# Altium integrated library Cypress PSoC 1.IntLib: 188 symbols (part 3 of 11)
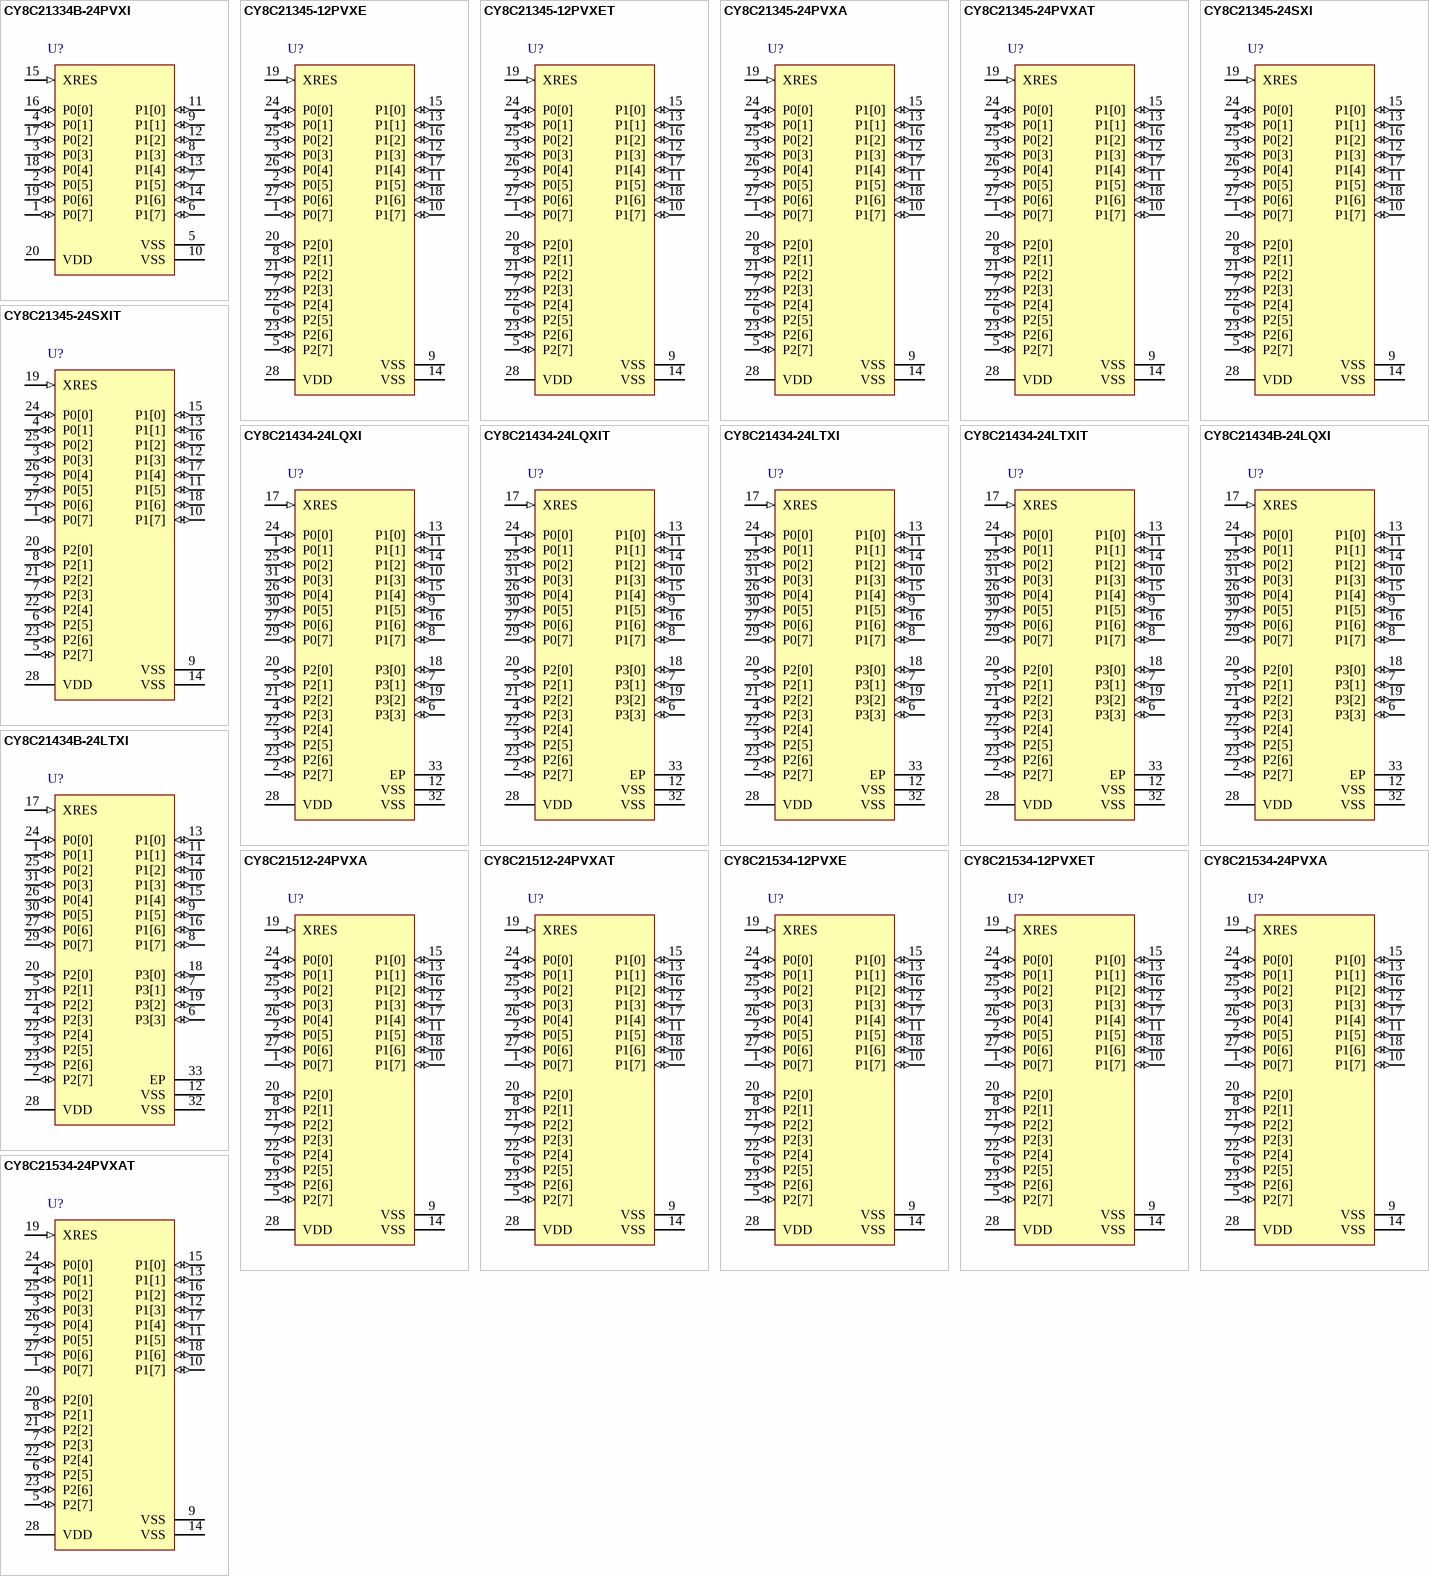
[diagram p13: symbols CY8C21334B-24PVXI to CY8C21534-24PVXAT]

## CY8C21345-12PVXE
designator U?
Automotive PSoC Programmable System-on-Chip, 8 KB Flash, 24 GPIOs, 4.75 to 5.25 V, 28-Pin SSOP (O28.21); Manufacturer: Cypress; PartNumber: CY8C21345-12PVXE; CPU Core: M8C; No. of CapSense IO: 21; Flash (KB): 8; Max. Operating Voltage (V): 5.25; Min. Operating Voltage (V): 4.75; No. of GPIOs: 24; No. of Programmable Digital Blocks: 4; Rating: E; DatasheetVersion: Rev. *K; PackageVersion: *C; PackageReference: PVX28; PackageDescription: 28-Pin SSOP, Body 10.2 x 5.3 mm, Pitch 0.65 mm; Supplier 1: Digi-Key; Supplier Part Number 1: CY8C21345-12PVXE-ND; Supplier 2: Mouser; Supplier Part Number 2: 727-CY8C21345-12PVXE; Max. Operating Temp. (°C): 125; Min. Operating Temp. (°C): -40; RoHS: Pb-Free; Mounting Technology: Surface Mount; ComponentLink1Description: Manufacturer URL; ComponentLink1URL: http://www.cypress.com/; ComponentLink2Description: Datasheet; ComponentLink2URL: http://www.cypress.com/?docID=40421; ComponentLink3Description: Package Specification; ComponentLink3URL: http://www.cypress.com/?docID=1371; ComponentLink4Description: Product URL; ComponentLink4URL: http://www.cypress.com/?rID=42798
footprint CYP-PVX28_N (SOP, 28-Leads, Body 10.2x5.3mm, Pitch 0.65mm, IPC Medium Density)
footprint CYP-PVX28_L (SOP, 28-Leads, Body 10.2x5.3mm, Pitch 0.65mm, IPC High Density)
footprint CYP-PVX28_M (SOP, 28-Leads, Body 10.2x5.3mm, Pitch 0.65mm, IPC Low Density)
pins: 1 P0[7] (io) "Analog column mux input, CMOD capacitor pin", 2 P0[5] (io) "Analog column mux input, CMOD capacitor pin", 3 P0[3] (io) "Analog column mux input", 4 P0[1] (io) "Analog column mux input", 5 P2[7] (io) "Direct input to analog block", 6 P2[5] (io) "Optional SAR ADC external reference(EXTREF)", 7 P2[3] (io), 8 P2[1] (io), 9 VSS (power) "Ground connection", 10 P1[7] (io) "I2C serial clock (SCL)", 11 P1[5] (io) "I2C serial data (SDA)", 12 P1[3] (io), 13 P1[1] (io) "Crystal input (XTALin), I2C SCL,ISSP-SCLK", 14 VSS (power) "Ground connection", 15 P1[0] (io) "Crystal output (XTALout), I2C SDA,ISSP-SDATA", 16 P1[2] (io), 17 P1[4] (io) "Optional external clock (EXTCLK) input", 18 P1[6] (io), 19 XRES (in) "Active high external reset with internal pull-down", 20 P2[0] (io), 21 P2[2] (io), 22 P2[4] (io), 23 P2[6] (io) "Direct input to analog block", 24 P0[0] (io) "Analog column mux input", 25 P0[2] (io) "Analog column mux input", 26 P0[4] (io) "Analog column mux input", 27 P0[6] (io) "Analog column mux input", 28 VDD (power) "Supply voltage"

## CY8C21345-12PVXET
designator U?
Automotive PSoC Programmable System-on-Chip, 8 KB Flash, 24 GPIOs, 4.75 to 5.25 V, 28-Pin SSOP (O28.21), Tape and Reel; Manufacturer: Cypress; PartNumber: CY8C21345-12PVXET; CPU Core: M8C; No. of CapSense IO: 21; Flash (KB): 8; Max. Operating Voltage (V): 5.25; Min. Operating Voltage (V): 4.75; No. of GPIOs: 24; No. of Programmable Digital Blocks: 4; Rating: E; DatasheetVersion: Rev. *K; PackageVersion: *C; PackageReference: PVX28; PackageDescription: 28-Pin SSOP, Body 10.2 x 5.3 mm, Pitch 0.65 mm; Supplier 1: Digi-Key; Supplier Part Number 1: CY8C21345-12PVXET-ND; Supplier 2: Mouser; Supplier Part Number 2: 727-CY8C2134512PVXET; Max. Operating Temp. (°C): 125; Min. Operating Temp. (°C): -40; Packing: Tape and Reel; RoHS: Pb-Free; Mounting Technology: Surface Mount; ComponentLink1Description: Manufacturer URL; ComponentLink1URL: http://www.cypress.com/; ComponentLink2Description: Datasheet; ComponentLink2URL: http://www.cypress.com/?docID=40421; ComponentLink3Description: Package Specification; ComponentLink3URL: http://www.cypress.com/?docID=1371; ComponentLink4Description: Product URL; ComponentLink4URL: http://www.cypress.com/?rID=42798
footprint CYP-PVX28_N (SOP, 28-Leads, Body 10.2x5.3mm, Pitch 0.65mm, IPC Medium Density)
footprint CYP-PVX28_L (SOP, 28-Leads, Body 10.2x5.3mm, Pitch 0.65mm, IPC High Density)
footprint CYP-PVX28_M (SOP, 28-Leads, Body 10.2x5.3mm, Pitch 0.65mm, IPC Low Density)
pins: 1 P0[7] (io) "Analog column mux input, CMOD capacitor pin", 2 P0[5] (io) "Analog column mux input, CMOD capacitor pin", 3 P0[3] (io) "Analog column mux input", 4 P0[1] (io) "Analog column mux input", 5 P2[7] (io) "Direct input to analog block", 6 P2[5] (io) "Optional SAR ADC external reference(EXTREF)", 7 P2[3] (io), 8 P2[1] (io), 9 VSS (power) "Ground connection", 10 P1[7] (io) "I2C serial clock (SCL)", 11 P1[5] (io) "I2C serial data (SDA)", 12 P1[3] (io), 13 P1[1] (io) "Crystal input (XTALin), I2C SCL,ISSP-SCLK", 14 VSS (power) "Ground connection", 15 P1[0] (io) "Crystal output (XTALout), I2C SDA,ISSP-SDATA", 16 P1[2] (io), 17 P1[4] (io) "Optional external clock (EXTCLK) input", 18 P1[6] (io), 19 XRES (in) "Active high external reset with internal pull-down", 20 P2[0] (io), 21 P2[2] (io), 22 P2[4] (io), 23 P2[6] (io) "Direct input to analog block", 24 P0[0] (io) "Analog column mux input", 25 P0[2] (io) "Analog column mux input", 26 P0[4] (io) "Analog column mux input", 27 P0[6] (io) "Analog column mux input", 28 VDD (power) "Supply voltage"

## CY8C21345-24PVXA
designator U?
Automotive PSoC Programmable System-on-Chip, 16 KB Flash, 24 GPIOs, 3.00 to 5.25 V, 28-Pin SSOP (O28.21); Manufacturer: Cypress; PartNumber: CY8C21345-24PVXA; CPU Core: M8C; No. of CapSense IO: 21; Flash (KB): 8; Max. Operating Voltage (V): 5.25; Min. Operating Voltage (V): 3; No. of GPIOs: 24; No. of Programmable Digital Blocks: 4; Rating: A; DatasheetVersion: Rev. *K; PackageVersion: *C; PackageReference: PVX28; PackageDescription: 28-Pin SSOP, Body 10.2 x 5.3 mm, Pitch 0.65 mm; Supplier 1: Digi-Key; Supplier Part Number 1: CY8C21345-24PVXA-ND; Supplier 2: Mouser; Supplier Part Number 2: 727-8C2134524PVXA; Max. Operating Temp. (°C): 85; Min. Operating Temp. (°C): -40; RoHS: Pb-Free; Mounting Technology: Surface Mount; ComponentLink1Description: Manufacturer URL; ComponentLink1URL: http://www.cypress.com/; ComponentLink2Description: Datasheet; ComponentLink2URL: http://www.cypress.com/?docID=40421; ComponentLink3Description: Package Specification; ComponentLink3URL: http://www.cypress.com/?docID=1371; ComponentLink4Description: Product URL; ComponentLink4URL: http://www.cypress.com/?rID=42798
footprint CYP-PVX28_N (SOP, 28-Leads, Body 10.2x5.3mm, Pitch 0.65mm, IPC Medium Density)
footprint CYP-PVX28_L (SOP, 28-Leads, Body 10.2x5.3mm, Pitch 0.65mm, IPC High Density)
footprint CYP-PVX28_M (SOP, 28-Leads, Body 10.2x5.3mm, Pitch 0.65mm, IPC Low Density)
pins: 1 P0[7] (io) "Analog column mux input, CMOD capacitor pin", 2 P0[5] (io) "Analog column mux input, CMOD capacitor pin", 3 P0[3] (io) "Analog column mux input", 4 P0[1] (io) "Analog column mux input", 5 P2[7] (io) "Direct input to analog block", 6 P2[5] (io) "Optional SAR ADC external reference(EXTREF)", 7 P2[3] (io), 8 P2[1] (io), 9 VSS (power) "Ground connection", 10 P1[7] (io) "I2C serial clock (SCL)", 11 P1[5] (io) "I2C serial data (SDA)", 12 P1[3] (io), 13 P1[1] (io) "Crystal input (XTALin), I2C SCL,ISSP-SCLK", 14 VSS (power) "Ground connection", 15 P1[0] (io) "Crystal output (XTALout), I2C SDA,ISSP-SDATA", 16 P1[2] (io), 17 P1[4] (io) "Optional external clock (EXTCLK) input", 18 P1[6] (io), 19 XRES (in) "Active high external reset with internal pull-down", 20 P2[0] (io), 21 P2[2] (io), 22 P2[4] (io), 23 P2[6] (io) "Direct input to analog block", 24 P0[0] (io) "Analog column mux input", 25 P0[2] (io) "Analog column mux input", 26 P0[4] (io) "Analog column mux input", 27 P0[6] (io) "Analog column mux input", 28 VDD (power) "Supply voltage"

## CY8C21345-24PVXAT
designator U?
Automotive PSoC Programmable System-on-Chip, 16 KB Flash, 24 GPIOs, 3.00 to 5.25 V, 28-Pin SSOP (O28.21), Tape and Reel; Manufacturer: Cypress; PartNumber: CY8C21345-24PVXAT; CPU Core: M8C; No. of CapSense IO: 21; Flash (KB): 8; Max. Operating Voltage (V): 5.25; Min. Operating Voltage (V): 3; No. of GPIOs: 24; No. of Programmable Digital Blocks: 4; Rating: A; DatasheetVersion: Rev. *K; PackageVersion: *C; PackageReference: PVX28; PackageDescription: 28-Pin SSOP, Body 10.2 x 5.3 mm, Pitch 0.65 mm; Supplier 1: Digi-Key; Supplier Part Number 1: CY8C21345-24PVXAT-ND; Supplier 2: Mouser; Supplier Part Number 2: 727-8C2134524PVXAT; Max. Operating Temp. (°C): 85; Min. Operating Temp. (°C): -40; Packing: Tape and Reel; RoHS: Pb-Free; Mounting Technology: Surface Mount; ComponentLink1Description: Manufacturer URL; ComponentLink1URL: http://www.cypress.com/; ComponentLink2Description: Datasheet; ComponentLink2URL: http://www.cypress.com/?docID=40421; ComponentLink3Description: Package Specification; ComponentLink3URL: http://www.cypress.com/?docID=1371; ComponentLink4Description: Product URL; ComponentLink4URL: http://www.cypress.com/?rID=42798
footprint CYP-PVX28_N (SOP, 28-Leads, Body 10.2x5.3mm, Pitch 0.65mm, IPC Medium Density)
footprint CYP-PVX28_L (SOP, 28-Leads, Body 10.2x5.3mm, Pitch 0.65mm, IPC High Density)
footprint CYP-PVX28_M (SOP, 28-Leads, Body 10.2x5.3mm, Pitch 0.65mm, IPC Low Density)
pins: 1 P0[7] (io) "Analog column mux input, CMOD capacitor pin", 2 P0[5] (io) "Analog column mux input, CMOD capacitor pin", 3 P0[3] (io) "Analog column mux input", 4 P0[1] (io) "Analog column mux input", 5 P2[7] (io) "Direct input to analog block", 6 P2[5] (io) "Optional SAR ADC external reference(EXTREF)", 7 P2[3] (io), 8 P2[1] (io), 9 VSS (power) "Ground connection", 10 P1[7] (io) "I2C serial clock (SCL)", 11 P1[5] (io) "I2C serial data (SDA)", 12 P1[3] (io), 13 P1[1] (io) "Crystal input (XTALin), I2C SCL,ISSP-SCLK", 14 VSS (power) "Ground connection", 15 P1[0] (io) "Crystal output (XTALout), I2C SDA,ISSP-SDATA", 16 P1[2] (io), 17 P1[4] (io) "Optional external clock (EXTCLK) input", 18 P1[6] (io), 19 XRES (in) "Active high external reset with internal pull-down", 20 P2[0] (io), 21 P2[2] (io), 22 P2[4] (io), 23 P2[6] (io) "Direct input to analog block", 24 P0[0] (io) "Analog column mux input", 25 P0[2] (io) "Analog column mux input", 26 P0[4] (io) "Analog column mux input", 27 P0[6] (io) "Analog column mux input", 28 VDD (power) "Supply voltage"

## CY8C21345-24SXI
designator U?
PSoC Programmable System-on-Chip, 4 KB Flash, 24 GPIOs, 3.00 to 5.25 V, 28-Pin SOIC (S28.3); Manufacturer: Cypress; PartNumber: CY8C21345-24SXI; CPU Core: M8C; No. of CapSense IO: 24; Flash (KB): 4; Max. Operating Voltage (V): 5.25; Min. Operating Voltage (V): 3; Rating: I; DatasheetVersion: Rev. *R; PackageVersion: *E; PackageReference: SX28; PackageDescription: 28-Pin SOIC, Body 17.91 x 7.51 mm, Pitch 1.27 mm; Supplier 1: Digi-Key; Supplier Part Number 1: CY8C21345-24SXI-ND; Supplier 2: Newark; Supplier Part Number 2: 46P7692; Supplier 3: Mouser; Supplier Part Number 3: 727-CY8C2134524SXI; Max. Operating Temp. (°C): 85; Min. Operating Temp. (°C): -40; No. of GPIOs: 24; No. of Programmable Digital Blocks: 4; RoHS: Pb-Free; Mounting Technology: Surface Mount; Code_JEDEC: MO-119; ComponentLink1Description: Manufacturer URL; ComponentLink1URL: http://www.cypress.com/; ComponentLink2Description: Datasheet; ComponentLink2URL: http://www.cypress.com/?docID=45266; ComponentLink3Description: Package Specification; ComponentLink3URL: http://www.cypress.com/?docID=39168; ComponentLink4Description: Product URL; ComponentLink4URL: http://www.cypress.com/?rID=34248
footprint CYP-SX28_N (SOIC, 28-Leads, Body 17.9x7.5mm, Pitch 1.27mm, IPC Medium Density)
footprint CYP-SX28_L (SOIC, 28-Leads, Body 17.9x7.5mm, Pitch 1.27mm, IPC High Density)
footprint CYP-SX28_M (SOIC, 28-Leads, Body 17.9x7.5mm, Pitch 1.27mm, IPC Low Density)
pins: 1 P0[7] (io) "Integration Capacitor for MR", 2 P0[5] (io) "Integration Capacitor for ML", 3 P0[3] (io), 4 P0[1] (io), 5 P2[7] (io) "To Compare Column 0", 6 P2[5] (io) "Optional ADC External Vref", 7 P2[3] (io), 8 P2[1] (io), 9 VSS (power) "Ground Connection", 10 P1[7] (io) "I2C serial clock (SCL)", 11 P1[5] (io) "I2C serial data (SDA)", 12 P1[3] (io), 13 P1[1] (io) "I2C serial clock (SCL), ISSP-SCLK", 14 VSS (power) "Ground Connection", 15 P1[0] (io) "I2C serial Clock (SCL), ISSP-SDATA", 16 P1[2] (io), 17 P1[4] (io) "Optional external clock input (EXT-CLK)", 18 P1[6] (io), 19 XRES (in) "Active High Pin Reset with Internal Pull Down", 20 P2[0] (io), 21 P2[2] (io), 22 P2[4] (io), 23 P2[6] (io) "To Compare Column 1", 24 P0[0] (io), 25 P0[2] (io), 26 P0[4] (io), 27 P0[6] (io), 28 VDD (power) "Supply Voltage"

## CY8C21345-24SXIT
designator U?
PSoC Programmable System-on-Chip, 4 KB Flash, 24 GPIOs, 3.00 to 5.25 V, 28-Pin SOIC (S28.3), Tape and Reel; Manufacturer: Cypress; PartNumber: CY8C21345-24SXIT; CPU Core: M8C; No. of CapSense IO: 24; Flash (KB): 8; Max. Operating Voltage (V): 5.25; Min. Operating Voltage (V): 3; No. of Programmable Digital Blocks: 4; Rating: I; DatasheetVersion: Rev. *R; PackageVersion: *E; PackageReference: SX28; PackageDescription: 28-Pin SOIC, Body 17.91 x 7.51 mm, Pitch 1.27 mm; Supplier 1: Digi-Key; Supplier Part Number 1: CY8C21345-24SXIT-ND; Supplier 2: Mouser; Supplier Part Number 2: 727-CY8C2134524SXIT; Max. Operating Temp. (°C): 85; Min. Operating Temp. (°C): -40; No. of GPIOs: 24; Packing: Tape and Reel; RoHS: Pb-Free; Mounting Technology: Surface Mount; Code_JEDEC: MO-119; ComponentLink1Description: Manufacturer URL; ComponentLink1URL: http://www.cypress.com/; ComponentLink2Description: Datasheet; ComponentLink2URL: http://www.cypress.com/?docID=45266; ComponentLink3Description: Package Specification; ComponentLink3URL: http://www.cypress.com/?docID=39168; ComponentLink4Description: Product URL; ComponentLink4URL: http://www.cypress.com/?rID=34248
footprint CYP-SX28_N (SOIC, 28-Leads, Body 17.9x7.5mm, Pitch 1.27mm, IPC Medium Density)
footprint CYP-SX28_L (SOIC, 28-Leads, Body 17.9x7.5mm, Pitch 1.27mm, IPC High Density)
footprint CYP-SX28_M (SOIC, 28-Leads, Body 17.9x7.5mm, Pitch 1.27mm, IPC Low Density)
pins: 1 P0[7] (io) "Integration Capacitor for MR", 2 P0[5] (io) "Integration Capacitor for ML", 3 P0[3] (io), 4 P0[1] (io), 5 P2[7] (io) "To Compare Column 0", 6 P2[5] (io) "Optional ADC External Vref", 7 P2[3] (io), 8 P2[1] (io), 9 VSS (power) "Ground Connection", 10 P1[7] (io) "I2C serial clock (SCL)", 11 P1[5] (io) "I2C serial data (SDA)", 12 P1[3] (io), 13 P1[1] (io) "I2C serial clock (SCL), ISSP-SCLK", 14 VSS (power) "Ground Connection", 15 P1[0] (io) "I2C serial Clock (SCL), ISSP-SDATA", 16 P1[2] (io), 17 P1[4] (io) "Optional external clock input (EXT-CLK)", 18 P1[6] (io), 19 XRES (in) "Active High Pin Reset with Internal Pull Down", 20 P2[0] (io), 21 P2[2] (io), 22 P2[4] (io), 23 P2[6] (io) "To Compare Column 1", 24 P0[0] (io), 25 P0[2] (io), 26 P0[4] (io), 27 P0[6] (io), 28 VDD (power) "Supply Voltage"

## CY8C21434-24LQXI
designator U?
PSoC Programmable System-on-Chip, 8 KB Flash, 28 GPIOs, 2.40 to 5.25 V, 32-Pin QFN (LQ32); Manufacturer: Cypress; PartNumber: CY8C21434-24LQXI; Comm. Interface: I2C-SPI-UART; CPU Core: M8C; No. of CapSense IO: 24; Flash (KB): 8; Max. Operating Voltage (V): 5.25; Min. Operating Voltage (V): 2.4; No. of GPIOs: 28; No. of Programmable Digital Blocks: 3; Proximity Sensing: Y; PWMs: HW; Rating: I; Sliders: 4; SmartSense Enabled: N; DatasheetVersion: Rev. *AD; PackageReference: LQX32; PackageDescription: 32-Pin QFN (5 x 4 x 0.55 mm) LQ32 3.5 x 3.5 E-Pad (Sawn); Supplier 1: Digi-Key; Supplier Part Number 1: CY8C21434-24LQXI-ND; Supplier 2: Newark; Supplier Part Number 2: 04P7430; Supplier 3: Mouser; Supplier Part Number 3: 727-CY8C21434-24LQXI; Max. Operating Temp. (°C): 85; Min. Operating Temp. (°C): -40; RoHS: Pb-Free; Mounting Technology: Surface Mount; Code_JEDEC: MO-248; ComponentLink1Description: Manufacturer URL; ComponentLink1URL: http://www.cypress.com/; ComponentLink2Description: Datasheet; ComponentLink2URL: http://www.cypress.com/?docID=48828; ComponentLink3Description: Package Specification; ComponentLink3URL: http://www.cypress.com/?docID=40402; ComponentLink4Description: Product URL; ComponentLink4URL: http://www.cypress.com/?rID=3345
footprint CYP-LQX32_N (QFN, 32-Leads, Body 5x5mm, Pitch 0.5mm, Thermal Pad 3.5x3.5mm, IPC Medium Density)
footprint CYP-LQX32_L (QFN, 32-Leads, Body 5x5mm, Pitch 0.5mm, Thermal Pad 3.5X3.5mm, IPC High Density)
footprint CYP-LQX32_M (QFN, 32-Leads, Body 5x5mm, Pitch 0.5mm, Thermal Pad 3.5x3.5mm, IPC Low Density)
pins: 1 P0[1] (io) "Analog column mux input, integrating input", 2 P2[7] (io), 3 P2[5] (io), 4 P2[3] (io), 5 P2[1] (io), 6 P3[3] (io), 7 P3[1] (io), 8 P1[7] (io) "I2C SCL", 9 P1[5] (io) "I2C SDA", 10 P1[3] (io), 11 P1[1] (io) "I2C SCL, ISSP-SCLK", 12 VSS (power) "Ground connection", 13 P1[0] (io) "I2C SDA, ISSP-SDATA", 14 P1[2] (io), 15 P1[4] (io) "Optional external clock input (EXTCLK)", 16 P1[6] (io), 17 XRES (in) "Active high external reset with internal pull-down", 18 P3[0] (io), 19 P3[2] (io), 20 P2[0] (io), 21 P2[2] (io), 22 P2[4] (io), 23 P2[6] (io), 24 P0[0] (io) "Analog column mux input", 25 P0[2] (io) "Analog column mux input", 26 P0[4] (io) "Analog column mux input", 27 P0[6] (io) "Analog column mux input", 28 VDD (power) "Supply voltage", 29 P0[7] (io) "Analog column mux input", 30 P0[5] (io) "Analog column mux input", 31 P0[3] (io) "Analog column mux input, integrating input", 32 VSS (power) "Ground connection", 33 EP (power) "Solderable Exposed PAD"

## CY8C21434-24LQXIT
designator U?
PSoC Programmable System-on-Chip, 8 KB Flash, 28 GPIOs, 2.40 to 5.25 V, 32-Pin QFN, Tape and Reel; Manufacturer: Cypress; PartNumber: CY8C21434-24LQXIT; Comm. Interface: I2C-SPI-UART; CPU Core: M8C; No. of CapSense IO: 24; Flash (KB): 8; Max. Operating Voltage (V): 5.25; Min. Operating Voltage (V): 2.4; No. of GPIOs: 28; No. of Programmable Digital Blocks: 3; Proximity Sensing: Y; PWMs: HW; Rating: I; Sliders: 4; SmartSense Enabled: N; DatasheetVersion: Rev. *AD; PackageReference: LQX32; PackageDescription: 32-Pin QFN (5 x 4 x 0.55 mm) LQ32 3.5 x 3.5 E-Pad (Sawn); Supplier 1: Digi-Key; Supplier Part Number 1: CY8C21434-24LQXIT-ND; Supplier 2: Mouser; Supplier Part Number 2: 727-CY8C2143424LQXIT; Max. Operating Temp. (°C): 85; Min. Operating Temp. (°C): -40; Packing: Tape and Reel; RoHS: Pb-Free; Mounting Technology: Surface Mount; Code_JEDEC: MO-248; ComponentLink1Description: Manufacturer URL; ComponentLink1URL: http://www.cypress.com/; ComponentLink2Description: Datasheet; ComponentLink2URL: http://www.cypress.com/?docID=48828; ComponentLink3Description: Package Specification; ComponentLink3URL: http://www.cypress.com/?docID=40402; ComponentLink4Description: Product URL; ComponentLink4URL: http://www.cypress.com/?rID=3345
footprint CYP-LQX32_N (QFN, 32-Leads, Body 5x5mm, Pitch 0.5mm, Thermal Pad 3.5x3.5mm, IPC Medium Density)
footprint CYP-LQX32_L (QFN, 32-Leads, Body 5x5mm, Pitch 0.5mm, Thermal Pad 3.5X3.5mm, IPC High Density)
footprint CYP-LQX32_M (QFN, 32-Leads, Body 5x5mm, Pitch 0.5mm, Thermal Pad 3.5x3.5mm, IPC Low Density)
pins: 1 P0[1] (io) "Analog column mux input, integrating input", 2 P2[7] (io), 3 P2[5] (io), 4 P2[3] (io), 5 P2[1] (io), 6 P3[3] (io), 7 P3[1] (io), 8 P1[7] (io) "I2C SCL", 9 P1[5] (io) "I2C SDA", 10 P1[3] (io), 11 P1[1] (io) "I2C SCL, ISSP-SCLK", 12 VSS (power) "Ground connection", 13 P1[0] (io) "I2C SDA, ISSP-SDATA", 14 P1[2] (io), 15 P1[4] (io) "Optional external clock input (EXTCLK)", 16 P1[6] (io), 17 XRES (in) "Active high external reset with internal pull-down", 18 P3[0] (io), 19 P3[2] (io), 20 P2[0] (io), 21 P2[2] (io), 22 P2[4] (io), 23 P2[6] (io), 24 P0[0] (io) "Analog column mux input", 25 P0[2] (io) "Analog column mux input", 26 P0[4] (io) "Analog column mux input", 27 P0[6] (io) "Analog column mux input", 28 VDD (power) "Supply voltage", 29 P0[7] (io) "Analog column mux input", 30 P0[5] (io) "Analog column mux input", 31 P0[3] (io) "Analog column mux input, integrating input", 32 VSS (power) "Ground connection", 33 EP (power) "Solderable Exposed PAD"

## CY8C21434-24LTXI
designator U?
PSoC Programmable System-on-Chip, 8 KB Flash, 28 GPIOs, 2.40 to 5.25 V, 32-Pin QFN (LT32B); Manufacturer: Cypress; PartNumber: CY8C21434-24LTXI; Comm. Interface: I2C-SPI-UART; CPU Core: M8C; No. of CapSense IO: 24; Flash (KB): 8; Max. Operating Voltage (V): 5.25; Min. Operating Voltage (V): 2.4; No. of GPIOs: 28; No. of Programmable Digital Blocks: 3; Proximity Sensing: Y; PWMs: HW; Rating: I; Sliders: 4; SmartSense Enabled: N; DatasheetVersion: Rev. *AD; PackageReference: LTX32; PackageDescription: 32-Pin Swan QFN, Body 5 x 5 mm, Pitch 0.5 mm; Supplier 1: Digi-Key; Supplier Part Number 1: 428-2061-ND; Supplier 2: Farnell; Supplier Part Number 2: 1821791; Supplier 3: Newark; Supplier Part Number 3: 98M0689; Supplier 4: Mouser; Supplier Part Number 4: 727-CY8C21434-24LTXI; Max. Operating Temp. (°C): 85; Min. Operating Temp. (°C): -40; RoHS: Pb-Free; Mounting Technology: Surface Mount; Code_JEDEC: MO-220; ComponentLink1Description: Manufacturer URL; ComponentLink1URL: http://www.cypress.com/; ComponentLink2Description: Datasheet; ComponentLink2URL: http://www.cypress.com/?docID=48828; ComponentLink3Description: Package Specification; ComponentLink3URL: http://www.cypress.com/?docID=39513; ComponentLink4Description: Product URL; ComponentLink4URL: http://www.cypress.com/?rID=3345
footprint CYP-LTX32_N (QFN, 32-Leads, Body 5x5mm, Pitch 0.5mm, Thermal Pad 3.5x3.5mm, IPC Medium Density)
footprint CYP-LTX32_L (QFN, 32-Leads, Body 5x5mm, Pitch 0.5mm, Thermal Pad 3.5x3.5mm, IPC High Density)
footprint CYP-LTX32_M (QFN, 32-Leads, Body 5x5mm, Pitch 0.5mm, Thermal Pad 3.5x3.5mm, IPC Low Density)
pins: 1 P0[1] (io) "Analog column mux input, integrating input", 2 P2[7] (io), 3 P2[5] (io), 4 P2[3] (io), 5 P2[1] (io), 6 P3[3] (io) "In CY8C21434 part", 7 P3[1] (io) "In CY8C21434 part", 8 P1[7] (io) "I2C SCL", 9 P1[5] (io) "I2C SDA", 10 P1[3] (io), 11 P1[1] (io) "I2C SCL, ISSP-SCLK", 12 VSS (power) "Ground connection", 13 P1[0] (io) "I2C SDA, ISSP-SDATA", 14 P1[2] (io), 15 P1[4] (io) "Optional external clock input (EXTCLK)", 16 P1[6] (io), 17 XRES (in) "Active high external reset with internal pull-down", 18 P3[0] (io), 19 P3[2] (io), 20 P2[0] (io), 21 P2[2] (io), 22 P2[4] (io), 23 P2[6] (io), 24 P0[0] (io) "Analog column mux input", 25 P0[2] (io) "Analog column mux input", 26 P0[4] (io) "Analog column mux input", 27 P0[6] (io) "Analog column mux input", 28 VDD (power) "Supply voltage", 29 P0[7] (io) "Analog column mux input", 30 P0[5] (io) "Analog column mux input", 31 P0[3] (io) "Analog column mux input", 32 VSS (power) "Ground connection", 33 EP (power) "Solderable Exposed PAD"

## CY8C21434-24LTXIT
designator U?
PSoC Programmable System-on-Chip, 8 KB Flash, 26 GPIOs, 2.40 to 5.25 V, 32-Pin QFN (LT32B), Tape and Reel; Manufacturer: Cypress; PartNumber: CY8C21434-24LTXIT; Comm. Interface: I2C-SPI-UART; CPU Core: M8C; No. of CapSense IO: 24; Flash (KB): 8; Max. Operating Voltage (V): 5.25; Min. Operating Voltage (V): 2.4; No. of GPIOs: 28; No. of Programmable Digital Blocks: 3; Proximity Sensing: Y; PWMs: HW; Rating: I; Sliders: 4; SmartSense Enabled: N; DatasheetVersion: Rev. *AD; PackageReference: LTX32; PackageDescription: 32-Pin Swan QFN, Body 5 x 5 mm, Pitch 0.5 mm; Supplier 1: Digi-Key; Supplier Part Number 1: CY8C21434-24LTXIT-ND; Supplier 2: Mouser; Supplier Part Number 2: 727-CY8C2143424LTXIT; Max. Operating Temp. (°C): 85; Min. Operating Temp. (°C): -40; Packing: Tape and Reel; RoHS: Pb-Free; Mounting Technology: Surface Mount; Code_JEDEC: MO-220; ComponentLink1Description: Manufacturer URL; ComponentLink1URL: http://www.cypress.com/; ComponentLink2Description: Datasheet; ComponentLink2URL: http://www.cypress.com/?docID=48828; ComponentLink3Description: Package Specification; ComponentLink3URL: http://www.cypress.com/?docID=39513; ComponentLink4Description: Product URL; ComponentLink4URL: http://www.cypress.com/?rID=3345
footprint CYP-LTX32_N (QFN, 32-Leads, Body 5x5mm, Pitch 0.5mm, Thermal Pad 3.5x3.5mm, IPC Medium Density)
footprint CYP-LTX32_L (QFN, 32-Leads, Body 5x5mm, Pitch 0.5mm, Thermal Pad 3.5x3.5mm, IPC High Density)
footprint CYP-LTX32_M (QFN, 32-Leads, Body 5x5mm, Pitch 0.5mm, Thermal Pad 3.5x3.5mm, IPC Low Density)
pins: 1 P0[1] (io) "Analog column mux input, integrating input", 2 P2[7] (io), 3 P2[5] (io), 4 P2[3] (io), 5 P2[1] (io), 6 P3[3] (io) "In CY8C21434 part", 7 P3[1] (io) "In CY8C21434 part", 8 P1[7] (io) "I2C SCL", 9 P1[5] (io) "I2C SDA", 10 P1[3] (io), 11 P1[1] (io) "I2C SCL, ISSP-SCLK", 12 VSS (power) "Ground connection", 13 P1[0] (io) "I2C SDA, ISSP-SDATA", 14 P1[2] (io), 15 P1[4] (io) "Optional external clock input (EXTCLK)", 16 P1[6] (io), 17 XRES (in) "Active high external reset with internal pull-down", 18 P3[0] (io), 19 P3[2] (io), 20 P2[0] (io), 21 P2[2] (io), 22 P2[4] (io), 23 P2[6] (io), 24 P0[0] (io) "Analog column mux input", 25 P0[2] (io) "Analog column mux input", 26 P0[4] (io) "Analog column mux input", 27 P0[6] (io) "Analog column mux input", 28 VDD (power) "Supply voltage", 29 P0[7] (io) "Analog column mux input", 30 P0[5] (io) "Analog column mux input", 31 P0[3] (io) "Analog column mux input", 32 VSS (power) "Ground connection", 33 EP (power) "Solderable Exposed PAD"

## CY8C21434B-24LQXI
designator U?
PSoC Programmable System-on-Chip, M8C, 24 CapSense IO, 2.4 to 5.25 V, 32-Pin QFN (LQX32); Manufacturer: Cypress; PartNumber: CY8C21434B-24LQXI; Comm. Interface: I2C-SPI-UART; No. of CapSense IO: 24; Flash (KB): 8; Max. Operating Voltage (V): 5.25; Min. Operating Voltage (V): 2.4; No. of Programmable Digital Blocks: 3; Packing: Tray; Proximity Sensing: Y; PWMs: HW; Rating: I; Sliders: 2; DatasheetVersion: Rev. *D; PackageReference: LQX32; PackageDescription: 32-Pin QFN (5 x 4 x 0.55 mm) LQ32 3.5 x 3.5 E-Pad (Sawn); Supplier 1: Digi-Key; Supplier Part Number 1: 428-3109-ND; Supplier 2: Mouser; Supplier Part Number 2: 727-CY8C21434B24LQXI; CPU Core: M8C; Max. Operating Temp. (°C): 85; Min. Operating Temp. (°C): -40; No. of GPIOs: 24; RoHS: Pb-Free; SmartSense Enabled: Y; Mounting Technology: Surface Mount; Code_JEDEC: MO-248; ComponentLink1Description: Manufacturer URL; ComponentLink1URL: http://www.cypress.com/; ComponentLink2Description: Datasheet; ComponentLink2URL: http://www.cypress.com/?docID=48203; ComponentLink3Description: Package Specification; ComponentLink3URL: http://www.cypress.com/?docID=40402; ComponentLink4Description: Product URL; ComponentLink4URL: http://www.cypress.com/?rID=49125
footprint CYP-LQX32_N (QFN, 32-Leads, Body 5x5mm, Pitch 0.5mm, Thermal Pad 3.5x3.5mm, IPC Medium Density)
footprint CYP-LQX32_L (QFN, 32-Leads, Body 5x5mm, Pitch 0.5mm, Thermal Pad 3.5X3.5mm, IPC High Density)
footprint CYP-LQX32_M (QFN, 32-Leads, Body 5x5mm, Pitch 0.5mm, Thermal Pad 3.5x3.5mm, IPC Low Density)
pins: 1 P0[1] (io) "Analog column mux input, integrating input", 2 P2[7] (io), 3 P2[5] (io), 4 P2[3] (io), 5 P2[1] (io), 6 P3[3] (io) "In CY8C21434B part", 7 P3[1] (io) "In CY8C21434B part", 8 P1[7] (io) "I2C SCL", 9 P1[5] (io) "I2C SDA", 10 P1[3] (io), 11 P1[1] (io) "I2C SCL, ISSP-SCLK", 12 VSS (power) "Ground connection", 13 P1[0] (io) "I2C SDA, ISSP-SDATA", 14 P1[2] (io), 15 P1[4] (io) "Optional external clock input (EXTCLK)", 16 P1[6] (io), 17 XRES (in) "Active high external reset with internal pull-down", 18 P3[0] (io), 19 P3[2] (io), 20 P2[0] (io), 21 P2[2] (io), 22 P2[4] (io), 23 P2[6] (io), 24 P0[0] (io) "Analog column mux input", 25 P0[2] (io) "Analog column mux input", 26 P0[4] (io) "Analog column mux input", 27 P0[6] (io) "Analog column mux input", 28 VDD (power) "Supply voltage", 29 P0[7] (io) "Analog column mux input", 30 P0[5] (io) "Analog column mux input", 31 P0[3] (io) "Analog column mux input, integrating input", 32 VSS (power) "Ground connection", 33 EP (power) "SOLDERABLE EXPOSED PAD"

## CY8C21434B-24LTXI
designator U?
PSoC Programmable System-on-Chip, M8C, 24 CapSense IO, 2.4 to 5.25 V, 32-Pin QFN (LTX32); Manufacturer: Cypress; PartNumber: CY8C21434B-24LTXI; Comm. Interface: I2C-SPI-UART; No. of CapSense IO: 24; Flash (KB): 8; Max. Operating Voltage (V): 5.25; Min. Operating Voltage (V): 2.4; No. of Programmable Digital Blocks: 3; Packing: Tray; Proximity Sensing: Y; PWMs: HW; Rating: I; Sliders: 2; DatasheetVersion: Rev. *D; PackageReference: LTX32; PackageDescription: 32-Pin Swan QFN, Body 5 x 5 mm, Pitch 0.5 mm; Supplier 1: Digi-Key; Supplier Part Number 1: CY8C21434B-24LTXI-ND; Supplier 2: Mouser; Supplier Part Number 2: 727-CY8C21434B24LTXI; CPU Core: M8C; Max. Operating Temp. (°C): 85; Min. Operating Temp. (°C): -40; No. of GPIOs: 24; RoHS: Pb-Free; SmartSense Enabled: Y; Mounting Technology: Surface Mount; Code_JEDEC: MO-220; ComponentLink1Description: Manufacturer URL; ComponentLink1URL: http://www.cypress.com/; ComponentLink2Description: Datasheet; ComponentLink2URL: http://www.cypress.com/?docID=48203; ComponentLink3Description: Package Specification; ComponentLink3URL: http://www.cypress.com/?docID=39513; ComponentLink4Description: Product URL; ComponentLink4URL: http://www.cypress.com/?rID=49125
footprint CYP-LTX32_N (QFN, 32-Leads, Body 5x5mm, Pitch 0.5mm, Thermal Pad 3.5x3.5mm, IPC Medium Density)
footprint CYP-LTX32_L (QFN, 32-Leads, Body 5x5mm, Pitch 0.5mm, Thermal Pad 3.5x3.5mm, IPC High Density)
footprint CYP-LTX32_M (QFN, 32-Leads, Body 5x5mm, Pitch 0.5mm, Thermal Pad 3.5x3.5mm, IPC Low Density)
pins: 1 P0[1] (io) "Analog column mux input, integrating input", 2 P2[7] (io), 3 P2[5] (io), 4 P2[3] (io), 5 P2[1] (io), 6 P3[3] (io) "In CY8C21434B part", 7 P3[1] (io) "In CY8C21434B part", 8 P1[7] (io) "I2C SCL", 9 P1[5] (io) "I2C SDA", 10 P1[3] (io), 11 P1[1] (io) "I2C SCL,ISSP-SCLK", 12 VSS (power) "Ground connection", 13 P1[0] (io) "I2C SDA,ISSP-SDATA", 14 P1[2] (io), 15 P1[4] (io) "Optional external clock input (EXTCLK)", 16 P1[6] (io), 17 XRES (in) "Active high external reset with internal pull-down", 18 P3[0] (io), 19 P3[2] (io), 20 P2[0] (io), 21 P2[2] (io), 22 P2[4] (io), 23 P2[6] (io), 24 P0[0] (io) "Analog column mux input", 25 P0[2] (io) "Analog column mux input", 26 P0[4] (io) "Analog column mux input", 27 P0[6] (io) "Analog column mux input", 28 VDD (power) "Supply connection", 29 P0[7] (io) "Analog column mux input", 30 P0[5] (io) "Analog column mux input", 31 P0[3] (io) "Analog column mux input,intergrating input", 32 VSS (power) "Ground connection", 33 EP (power) "Center pad on the QFN package"

## CY8C21512-24PVXA
designator U?
Automotive PSoC Programmable System-on-Chip, 8 KB Flash, 24 GPIOs, 3.00 to 5.25 V, 28-Pin SSOP (O28.21); Manufacturer: Cypress; PartNumber: CY8C21512-24PVXA; Comm. Interface: I2C-SPI-UART; CPU Core: M8C; No. of CapSense IO: 20; Flash (KB): 8; Max. Operating Voltage (V): 5.25; Min. Operating Voltage (V): 3; No. of GPIOs: 24; No. of Programmable Digital Blocks: 1; Proximity Sensing: Y; PWMs: HW; Rating: A; Sliders: 4; SmartSense Enabled: N; DatasheetVersion: Rev. *C; PackageVersion: *C; PackageReference: PVX28; PackageDescription: 28-Pin SSOP, Body 10.2 x 5.3 mm, Pitch 0.65 mm; Supplier 1: Digi-Key; Supplier Part Number 1: CY8C21512-24PVXA-ND; Supplier 2: Mouser; Supplier Part Number 2: 727-CY8C21512-24PVXA; Max. Operating Temp. (°C): 85; Min. Operating Temp. (°C): -40; RoHS: Pb-Free; Mounting Technology: Surface Mount; ComponentLink1Description: Manufacturer URL; ComponentLink1URL: http://www.cypress.com/; ComponentLink2Description: Datasheet; ComponentLink2URL: http://www.cypress.com/?docID=45699; ComponentLink3Description: Package Specification; ComponentLink3URL: http://www.cypress.com/?docID=1371; ComponentLink4Description: Product URL; ComponentLink4URL: http://www.cypress.com/?rID=47232
footprint CYP-PVX28_N (SOP, 28-Leads, Body 10.2x5.3mm, Pitch 0.65mm, IPC Medium Density)
footprint CYP-PVX28_L (SOP, 28-Leads, Body 10.2x5.3mm, Pitch 0.65mm, IPC High Density)
footprint CYP-PVX28_M (SOP, 28-Leads, Body 10.2x5.3mm, Pitch 0.65mm, IPC Low Density)
pins: 1 P0[7] (io) "Analog column mux input", 2 P0[5] (io) "Analog column mux input", 3 P0[3] (io) "Analog column mux input, CMOD capacitor pin", 4 P0[1] (io) "Analog column mux input, CMOD capacitor pin", 5 P2[7] (io), 6 P2[5] (io), 7 P2[3] (io), 8 P2[1] (io), 9 VSS (power) "Ground connection", 10 P1[7] (io) "I2C SCL", 11 P1[5] (io) "I2C SDA", 12 P1[3] (io), 13 P1[1] (io) "I2C SCL, ISSP-SCLK", 14 VSS (power) "Ground connection", 15 P1[0] (io) "I2C SDA, ISSP-SDATA", 16 P1[2] (io), 17 P1[4] (io) "Optional EXTCLK", 18 P1[6] (io), 19 XRES (in) "Active high external reset with internal pull-down", 20 P2[0] (io), 21 P2[2] (io), 22 P2[4] (io), 23 P2[6] (io), 24 P0[0] (io) "Analog column mux input", 25 P0[2] (io) "Analog column mux input", 26 P0[4] (io) "Analog column mux input", 27 P0[6] (io) "Analog column mux input", 28 VDD (power) "Supply voltage"

## CY8C21512-24PVXAT
designator U?
Automotive PSoC Programmable System-on-Chip, 8 KB Flash, 24 GPIOs, 3.00 to 5.25 V, 28-Pin SSOP (O28.21), Tape and Reel; Manufacturer: Cypress; PartNumber: CY8C21512-24PVXAT; Comm. Interface: I2C-SPI-UART; CPU Core: M8C; No. of CapSense IO: 20; Flash (KB): 8; Max. Operating Voltage (V): 5.25; Min. Operating Voltage (V): 3; No. of GPIOs: 24; No. of Programmable Digital Blocks: 1; Proximity Sensing: Y; PWMs: HW; Rating: A; Sliders: 4; SmartSense Enabled: N; DatasheetVersion: Rev. *C; PackageVersion: *C; PackageReference: PVX28; PackageDescription: 28-Pin SSOP, Body 10.2 x 5.3 mm, Pitch 0.65 mm; Supplier 1: Digi-Key; Supplier Part Number 1: CY8C21512-24PVXAT-ND; Supplier 2: Mouser; Supplier Part Number 2: 727-CY8C2151224PVXAT; Max. Operating Temp. (°C): 85; Min. Operating Temp. (°C): -40; Packing: Tape and Reel; RoHS: Pb-Free; Mounting Technology: Surface Mount; ComponentLink1Description: Manufacturer URL; ComponentLink1URL: http://www.cypress.com/; ComponentLink2Description: Datasheet; ComponentLink2URL: http://www.cypress.com/?docID=45699; ComponentLink3Description: Package Specification; ComponentLink3URL: http://www.cypress.com/?docID=1371; ComponentLink4Description: Product URL; ComponentLink4URL: http://www.cypress.com/?rID=47232
footprint CYP-PVX28_N (SOP, 28-Leads, Body 10.2x5.3mm, Pitch 0.65mm, IPC Medium Density)
footprint CYP-PVX28_L (SOP, 28-Leads, Body 10.2x5.3mm, Pitch 0.65mm, IPC High Density)
footprint CYP-PVX28_M (SOP, 28-Leads, Body 10.2x5.3mm, Pitch 0.65mm, IPC Low Density)
pins: 1 P0[7] (io) "Analog column mux input", 2 P0[5] (io) "Analog column mux input", 3 P0[3] (io) "Analog column mux input, CMOD capacitor pin", 4 P0[1] (io) "Analog column mux input, CMOD capacitor pin", 5 P2[7] (io), 6 P2[5] (io), 7 P2[3] (io), 8 P2[1] (io), 9 VSS (power) "Ground connection", 10 P1[7] (io) "I2C SCL", 11 P1[5] (io) "I2C SDA", 12 P1[3] (io), 13 P1[1] (io) "I2C SCL, ISSP-SCLK", 14 VSS (power) "Ground connection", 15 P1[0] (io) "I2C SDA, ISSP-SDATA", 16 P1[2] (io), 17 P1[4] (io) "Optional EXTCLK", 18 P1[6] (io), 19 XRES (in) "Active high external reset with internal pull-down", 20 P2[0] (io), 21 P2[2] (io), 22 P2[4] (io), 23 P2[6] (io), 24 P0[0] (io) "Analog column mux input", 25 P0[2] (io) "Analog column mux input", 26 P0[4] (io) "Analog column mux input", 27 P0[6] (io) "Analog column mux input", 28 VDD (power) "Supply voltage"

## CY8C21534-12PVXE
designator U?
Automotive Extended Temperature PSoC Programmable System-on-Chip, 8 KB Flash, 24 GPIOs, 4.75 to 5.25 V, 28 Pin SSOP (O28.21); Manufacturer: Cypress; PartNumber: CY8C21534-12PVXE; Comm. Interface: I2C-SPI-UART; CPU Core: M8C; No. of CapSense IO: 20; Flash (KB): 8; Max. Operating Voltage (V): 5.25; Min. Operating Voltage (V): 4.75; No. of GPIOs: 24; No. of Programmable Digital Blocks: 3; Proximity Sensing: Y; PWMs: HW; Rating: E; Sliders: 4; SmartSense Enabled: N; DatasheetVersion: Rev. *J; PackageVersion: *C; PackageReference: PVX28; PackageDescription: 28-Pin SSOP, Body 10.2 x 5.3 mm, Pitch 0.65 mm; Supplier 1: Digi-Key; Supplier Part Number 1: CY8C21534-12PVXE-ND; Supplier 2: Newark; Supplier Part Number 2: 19M7172; Supplier 3: Mouser; Supplier Part Number 3: 727-CY8C21534-12PVXE; Max. Operating Temp. (°C): 125; Min. Operating Temp. (°C): -40; RoHS: Pb-Free; Mounting Technology: Surface Mount; ComponentLink1Description: Manufacturer URL; ComponentLink1URL: http://www.cypress.com/; ComponentLink2Description: Datasheet; ComponentLink2URL: http://www.cypress.com/?docID=42394; ComponentLink3Description: Package Specification; ComponentLink3URL: http://www.cypress.com/?docID=1371; ComponentLink4Description: Product URL; ComponentLink4URL: http://www.cypress.com/?rID=3307
footprint CYP-PVX28_N (SOP, 28-Leads, Body 10.2x5.3mm, Pitch 0.65mm, IPC Medium Density)
footprint CYP-PVX28_L (SOP, 28-Leads, Body 10.2x5.3mm, Pitch 0.65mm, IPC High Density)
footprint CYP-PVX28_M (SOP, 28-Leads, Body 10.2x5.3mm, Pitch 0.65mm, IPC Low Density)
pins: 1 P0[7] (io) "Analog column mux input", 2 P0[5] (io) "Analog column mux input", 3 P0[3] (io) "Analog column mux input, CMOD capacitor pin", 4 P0[1] (io) "Analog column mux input, CMOD capacitor pin", 5 P2[7] (io), 6 P2[5] (io), 7 P2[3] (io), 8 P2[1] (io), 9 VSS (power) "Ground connection", 10 P1[7] (io) "I2C SCL", 11 P1[5] (io) "I2C SDA", 12 P1[3] (io), 13 P1[1] (io) "I2C SCL, ISSP-SCLK", 14 VSS (power) "Ground connection", 15 P1[0] (io) "I2C SDA, ISSP-SDATA", 16 P1[2] (io), 17 P1[4] (io) "Optional EXTCLK", 18 P1[6] (io), 19 XRES (in) "Active high external reset with internal pull-down", 20 P2[0] (io), 21 P2[2] (io), 22 P2[4] (io), 23 P2[6] (io), 24 P0[0] (io) "Analog column mux input", 25 P0[2] (io) "Analog column mux input", 26 P0[4] (io) "Analog column mux input", 27 P0[6] (io) "Analog column mux input", 28 VDD (power) "Supply voltage"

## CY8C21534-12PVXET
designator U?
Automotive Extended Temperature PSoC Programmable System-on-Chip, 8 KB Flash, 24 GPIOs, 4.75 to 5.25 V, 28-Pin SSOP (O28.21), Tape and Reel; Manufacturer: Cypress; PartNumber: CY8C21534-12PVXET; Comm. Interface: I2C-SPI-UART; CPU Core: M8C; No. of CapSense IO: 20; Flash (KB): 8; Max. Operating Voltage (V): 5.25; Min. Operating Voltage (V): 4.75; No. of GPIOs: 24; No. of Programmable Digital Blocks: 3; Proximity Sensing: Y; PWMs: HW; Rating: E; Sliders: 4; SmartSense Enabled: N; DatasheetVersion: Rev. *J; PackageVersion: *C; PackageReference: PVX28; PackageDescription: 28-Pin SSOP, Body 10.2 x 5.3 mm, Pitch 0.65 mm; Supplier 1: Digi-Key; Supplier Part Number 1: CY8C21534-12PVXET-ND; Supplier 2: Mouser; Supplier Part Number 2: 727-CY821534-12PVXET; Max. Operating Temp. (°C): 125; Min. Operating Temp. (°C): -40; Packing: Tape and Reel; RoHS: Pb-Free; Mounting Technology: Surface Mount; ComponentLink1Description: Manufacturer URL; ComponentLink1URL: http://www.cypress.com/; ComponentLink2Description: Datasheet; ComponentLink2URL: http://www.cypress.com/?docID=42394; ComponentLink3Description: Package Specification; ComponentLink3URL: http://www.cypress.com/?docID=1371; ComponentLink4Description: Product URL; ComponentLink4URL: http://www.cypress.com/?rID=3307
footprint CYP-PVX28_N (SOP, 28-Leads, Body 10.2x5.3mm, Pitch 0.65mm, IPC Medium Density)
footprint CYP-PVX28_L (SOP, 28-Leads, Body 10.2x5.3mm, Pitch 0.65mm, IPC High Density)
footprint CYP-PVX28_M (SOP, 28-Leads, Body 10.2x5.3mm, Pitch 0.65mm, IPC Low Density)
pins: 1 P0[7] (io) "Analog column mux input", 2 P0[5] (io) "Analog column mux input", 3 P0[3] (io) "Analog column mux input, CMOD capacitor pin", 4 P0[1] (io) "Analog column mux input, CMOD capacitor pin", 5 P2[7] (io), 6 P2[5] (io), 7 P2[3] (io), 8 P2[1] (io), 9 VSS (power) "Ground connection", 10 P1[7] (io) "I2C SCL", 11 P1[5] (io) "I2C SDA", 12 P1[3] (io), 13 P1[1] (io) "I2C SCL, ISSP-SCLK", 14 VSS (power) "Ground connection", 15 P1[0] (io) "I2C SDA, ISSP-SDATA", 16 P1[2] (io), 17 P1[4] (io) "Optional EXTCLK", 18 P1[6] (io), 19 XRES (in) "Active high external reset with internal pull-down", 20 P2[0] (io), 21 P2[2] (io), 22 P2[4] (io), 23 P2[6] (io), 24 P0[0] (io) "Analog column mux input", 25 P0[2] (io) "Analog column mux input", 26 P0[4] (io) "Analog column mux input", 27 P0[6] (io) "Analog column mux input", 28 VDD (power) "Supply voltage"

## CY8C21534-24PVXA
designator U?
Automotive PSoC Programmable System-on-Chip, 8 KB Flash, 24 GPIOs, 3.00 to 5.25 V, 28 Pin SSOP ( O28.21); Manufacturer: Cypress; PartNumber: CY8C21534-24PVXA; Comm. Interface: I2C-SPI-UART; CPU Core: M8C; No. of CapSense IO: 20; Flash (KB): 8; Max. Operating Voltage (V): 5.25; Min. Operating Voltage (V): 3; No. of GPIOs: 24; Proximity Sensing: Y; PWMs: HW; Rating: A; Sliders: 4; SmartSense Enabled: N; DatasheetVersion: Rev. *I; PackageVersion: *C; PackageReference: PVX28; PackageDescription: 28-Pin SSOP, Body 10.2 x 5.3 mm, Pitch 0.65 mm; Supplier 1: Digi-Key; Supplier Part Number 1: CY8C21534-24PVXA-ND; Supplier 2: Mouser; Supplier Part Number 2: 727-CY8C21534-24PVXA; Max. Operating Temp. (°C): 85; Min. Operating Temp. (°C): -40; No. of Programmable Digital Blocks: 3; RoHS: Pb-Free; Mounting Technology: Surface Mount; ComponentLink1Description: Manufacturer URL; ComponentLink1URL: http://www.cypress.com/; ComponentLink2Description: Datasheet; ComponentLink2URL: http://www.cypress.com/?docID=47071; ComponentLink3Description: Package Specification; ComponentLink3URL: http://www.cypress.com/?docID=1371; ComponentLink4Description: Product URL; ComponentLink4URL: http://www.cypress.com/?rID=3309
footprint CYP-PVX28_N (SOP, 28-Leads, Body 10.2x5.3mm, Pitch 0.65mm, IPC Medium Density)
footprint CYP-PVX28_L (SOP, 28-Leads, Body 10.2x5.3mm, Pitch 0.65mm, IPC High Density)
footprint CYP-PVX28_M (SOP, 28-Leads, Body 10.2x5.3mm, Pitch 0.65mm, IPC Low Density)
pins: 1 P0[7] (io) "Analog column mux input", 2 P0[5] (io) "Analog column mux input", 3 P0[3] (io) "Analog column mux input, CMOD capacitor pin", 4 P0[1] (io) "Analog column mux input, CMOD capacitor pin", 5 P2[7] (io), 6 P2[5] (io), 7 P2[3] (io), 8 P2[1] (io), 9 VSS (power) "Ground connection", 10 P1[7] (io) "I2C SCL", 11 P1[5] (io) "I2C SDA", 12 P1[3] (io), 13 P1[1] (io) "I2C SCL, ISSP-SCLK", 14 VSS (power) "Ground connection", 15 P1[0] (io) "I2C SDA, ISSP-SDATA", 16 P1[2] (io), 17 P1[4] (io) "Optional EXTCLK", 18 P1[6] (io), 19 XRES (in) "Active high external reset with internal pull-down", 20 P2[0] (io), 21 P2[2] (io), 22 P2[4] (io), 23 P2[6] (io), 24 P0[0] (io) "Analog column mux input", 25 P0[2] (io) "Analog column mux input", 26 P0[4] (io) "Analog column mux input", 27 P0[6] (io) "Analog column mux input", 28 VDD (power) "Supply voltage"

## CY8C21534-24PVXAT
designator U?
Automotive PSoC Programmable System-on-Chip, 8 KB Flash, 24 GPIOs, 3.00 to 5.25 V, 28 Pin SSOP (O28.21), Tape and Reel; Manufacturer: Cypress; PartNumber: CY8C21534-24PVXAT; Comm. Interface: I2C-SPI-UART; CPU Core: M8C; No. of CapSense IO: 20; Flash (KB): 8; Max. Operating Voltage (V): 5.25; Min. Operating Voltage (V): 3; No. of GPIOs: 24; Proximity Sensing: Y; PWMs: HW; Rating: A; Sliders: 4; SmartSense Enabled: N; DatasheetVersion: Rev. *I; PackageVersion: *C; PackageReference: PVX28; PackageDescription: 28-Pin SSOP, Body 10.2 x 5.3 mm, Pitch 0.65 mm; Supplier 1: Digi-Key; Supplier Part Number 1: CY8C21534-24PVXAT-ND; Supplier 2: Mouser; Supplier Part Number 2: 727-CY8C2153424PVXAT; Max. Operating Temp. (°C): 85; Min. Operating Temp. (°C): -40; No. of Programmable Digital Blocks: 3; Packing: Tape and Reel; RoHS: Pb-Free; Mounting Technology: Surface Mount; ComponentLink1Description: Manufacturer URL; ComponentLink1URL: http://www.cypress.com/; ComponentLink2Description: Datasheet; ComponentLink2URL: http://www.cypress.com/?docID=47071; ComponentLink3Description: Package Specification; ComponentLink3URL: http://www.cypress.com/?docID=1371; ComponentLink4Description: Product URL; ComponentLink4URL: http://www.cypress.com/?rID=3309
footprint CYP-PVX28_N (SOP, 28-Leads, Body 10.2x5.3mm, Pitch 0.65mm, IPC Medium Density)
footprint CYP-PVX28_L (SOP, 28-Leads, Body 10.2x5.3mm, Pitch 0.65mm, IPC High Density)
footprint CYP-PVX28_M (SOP, 28-Leads, Body 10.2x5.3mm, Pitch 0.65mm, IPC Low Density)
pins: 1 P0[7] (io) "Analog column mux input", 2 P0[5] (io) "Analog column mux input", 3 P0[3] (io) "Analog column mux input, CMOD capacitor pin", 4 P0[1] (io) "Analog column mux input, CMOD capacitor pin", 5 P2[7] (io), 6 P2[5] (io), 7 P2[3] (io), 8 P2[1] (io), 9 VSS (power) "Ground connection", 10 P1[7] (io) "I2C SCL", 11 P1[5] (io) "I2C SDA", 12 P1[3] (io), 13 P1[1] (io) "I2C SCL, ISSP-SCLK", 14 VSS (power) "Ground connection", 15 P1[0] (io) "I2C SDA, ISSP-SDATA", 16 P1[2] (io), 17 P1[4] (io) "Optional EXTCLK", 18 P1[6] (io), 19 XRES (in) "Active high external reset with internal pull-down", 20 P2[0] (io), 21 P2[2] (io), 22 P2[4] (io), 23 P2[6] (io), 24 P0[0] (io) "Analog column mux input", 25 P0[2] (io) "Analog column mux input", 26 P0[4] (io) "Analog column mux input", 27 P0[6] (io) "Analog column mux input", 28 VDD (power) "Supply voltage"

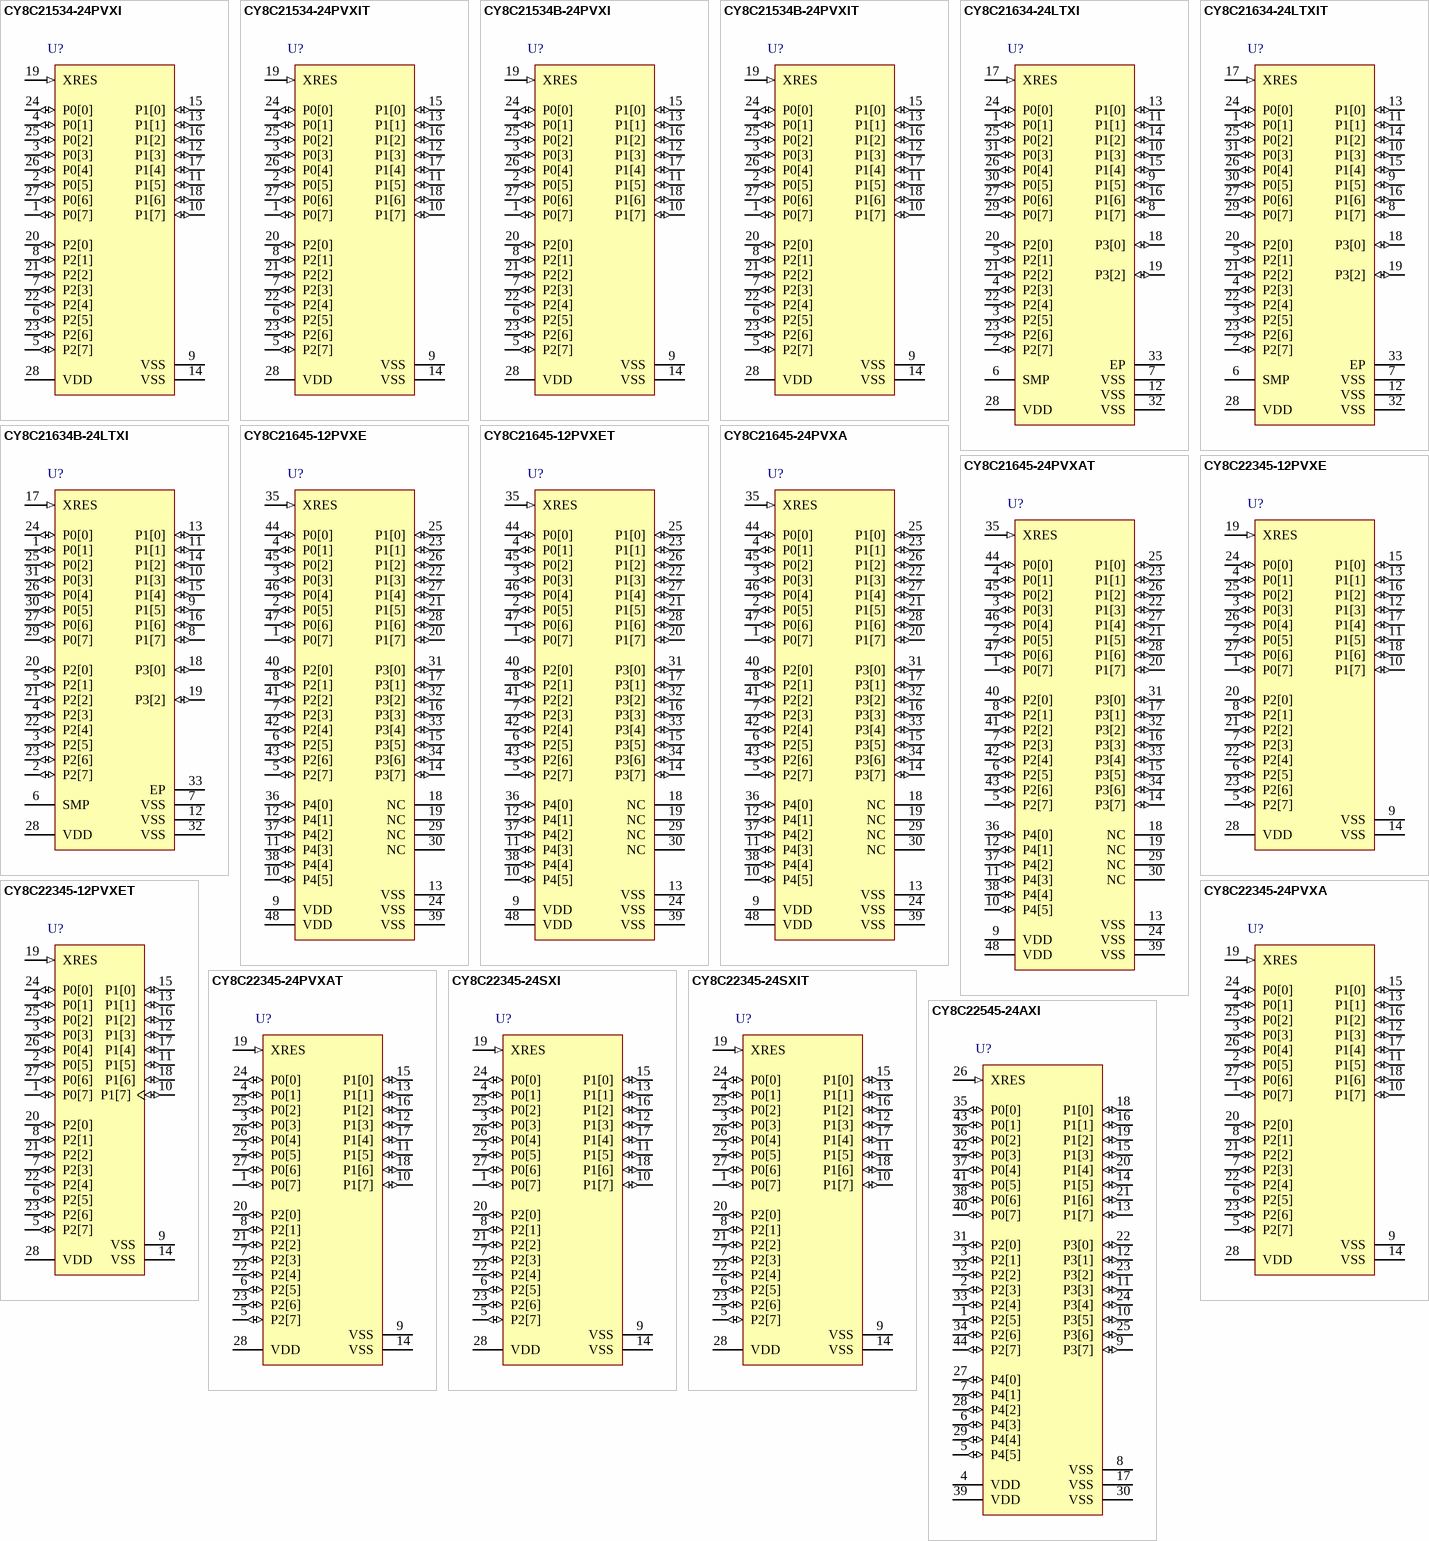
[diagram p3: symbols CY8C21534-24PVXI to CY8C22545-24AXI]

## CY8C21534-24PVXI
designator U?
PSoC Programmable System-on-Chip, 8 KB Flash, 24 GPIOs, 2.40 to 5.25 V, 28-Pin SSOP (O28.21); Manufacturer: Cypress; PartNumber: CY8C21534-24PVXI; Comm. Interface: I2C-SPI-UART; CPU Core: M8C; No. of CapSense IO: 20; Flash (KB): 8; Max. Operating Voltage (V): 5.25; Min. Operating Voltage (V): 2.4; No. of GPIOs: 24; No. of Programmable Digital Blocks: 3; Proximity Sensing: Y; PWMs: HW; Rating: I; Sliders: 4; SmartSense Enabled: N; DatasheetVersion: Rev. *AD; PackageVersion: *C; PackageReference: PVX28; PackageDescription: 28-Pin SSOP, Body 10.2 x 5.3 mm, Pitch 0.65 mm; Supplier 1: Digi-Key; Supplier Part Number 1: 428-1614-ND; Supplier 2: Farnell; Supplier Part Number 2: 1321733; Supplier 3: Newark; Supplier Part Number 3: 31M4843; Supplier 4: Newark; Supplier Part Number 4: 19M7174; Supplier 5: Mouser; Supplier Part Number 5: 727-CY8C21534-24PVXI; Max. Operating Temp. (°C): 85; Min. Operating Temp. (°C): -40; RoHS: Pb-Free; Mounting Technology: Surface Mount; ComponentLink1Description: Manufacturer URL; ComponentLink1URL: http://www.cypress.com/; ComponentLink2Description: Datasheet; ComponentLink2URL: http://www.cypress.com/?docID=48828; ComponentLink3Description: Package Specification; ComponentLink3URL: http://www.cypress.com/?docID=1371; ComponentLink4Description: Product URL; ComponentLink4URL: http://www.cypress.com/?rID=3345
footprint CYP-PVX28_N (SOP, 28-Leads, Body 10.2x5.3mm, Pitch 0.65mm, IPC Medium Density)
footprint CYP-PVX28_L (SOP, 28-Leads, Body 10.2x5.3mm, Pitch 0.65mm, IPC High Density)
footprint CYP-PVX28_M (SOP, 28-Leads, Body 10.2x5.3mm, Pitch 0.65mm, IPC Low Density)
pins: 1 P0[7] (io) "Analog column mux input", 2 P0[5] (io) "Analog column mux input", 3 P0[3] (io) "Analog column mux input, CMOD capacitor pin", 4 P0[1] (io) "Analog column mux input, CMOD capacitor pin", 5 P2[7] (io), 6 P2[5] (io), 7 P2[3] (io), 8 P2[1] (io), 9 VSS (power) "Ground connection", 10 P1[7] (io) "I2C SCL", 11 P1[5] (io) "I2C SDA", 12 P1[3] (io), 13 P1[1] (io) "I2C SCL, ISSP-SCLK", 14 VSS (power) "Ground connection", 15 P1[0] (io) "I2C SDA, ISSP-SDATA", 16 P1[2] (io), 17 P1[4] (io) "Optional EXTCLK", 18 P1[6] (io), 19 XRES (in) "Active high external reset with internal pull-down", 20 P2[0] (io), 21 P2[2] (io), 22 P2[4] (io), 23 P2[6] (io), 24 P0[0] (io) "Analog column mux input", 25 P0[2] (io) "Analog column mux input", 26 P0[4] (io) "Analog column mux input", 27 P0[6] (io) "Analog column mux input", 28 VDD (power) "Supply voltage"

## CY8C21534-24PVXIT
designator U?
PSoC Programmable System-on-Chip, 8 KB Flash, 24 GPIOs, 2.40 to 5.25 V, 28-Pin SSOP (O28.21), Tape and Reel; Manufacturer: Cypress; PartNumber: CY8C21534-24PVXIT; Comm. Interface: I2C-SPI-UART; No. of CapSense IO: 20; Flash (KB): 8; PWMs: HW; Max. Operating Voltage (V): 5.25; Min. Operating Voltage (V): 2.40; No. of Programmable Digital Blocks: 3; Proximity Sensing: Y; Sliders: 4; SmartSense Enabled: N; DatasheetVersion: Rev. *AD; PackageVersion: *C; PackageReference: PVX28; PackageDescription: 28-Pin SSOP, Body 10.2 x 5.3 mm, Pitch 0.65 mm; Supplier 1: Digi-Key; Supplier Part Number 1: CY8C21534-24PVXIT-ND; Supplier 2: Mouser; Supplier Part Number 2: 727-CY8C2153424PVXIT; Mounting Technology: Surface Mount; ComponentLink1Description: Manufacturer URL; ComponentLink1URL: http://www.cypress.com/; ComponentLink2Description: Datasheet; ComponentLink2URL: http://www.cypress.com/?docID=48828; ComponentLink3Description: Package Specification; ComponentLink3URL: http://www.cypress.com/?docID=1371; ComponentLink4Description: Product URL; ComponentLink4URL: http://www.cypress.com/?rID=3345
footprint CYP-PVX28_N (SOP, 28-Leads, Body 10.2x5.3mm, Pitch 0.65mm, IPC Medium Density)
footprint CYP-PVX28_L (SOP, 28-Leads, Body 10.2x5.3mm, Pitch 0.65mm, IPC High Density)
footprint CYP-PVX28_M (SOP, 28-Leads, Body 10.2x5.3mm, Pitch 0.65mm, IPC Low Density)
pins: 1 P0[7] (io) "Analog column mux input", 2 P0[5] (io) "Analog column mux input and column output", 3 P0[3] (io) "Analog column mux input and column output, integrating input", 4 P0[1] (io) "Analog column mux input, integrating input", 5 P2[7] (io), 6 P2[5] (io), 7 P2[3] (io) "Direct switched capacitor block input", 8 P2[1] (io) "Direct switched capacitor block input", 9 VSS (power) "Ground connection", 10 P1[7] (io) "I2C SCL", 11 P1[5] (io) "I2C SDA", 12 P1[3] (io), 13 P1[1] (io) "I2C SCL, ISSP-SCLK", 14 VSS (power) "Ground connection", 15 P1[0] (io) "I2C SDA, ISSP-SDATA", 16 P1[2] (io), 17 P1[4] (io) "Optional external clock input (EXTCLK)", 18 P1[6] (io), 19 XRES (in) "Active high external reset with internal pull-down", 20 P2[0] (io) "Direct switched capacitor block input", 21 P2[2] (io) "Direct switched capacitor block input", 22 P2[4] (io), 23 P2[6] (io), 24 P0[0] (io) "Analog column mux input", 25 P0[2] (io) "Analog column mux input", 26 P0[4] (io) "Analog column mux input", 27 P0[6] (io) "Analog column mux input", 28 VDD (power) "Supply voltage"